# EAGLE library part OPENEMBED-SOM9331 (library BaseApp)
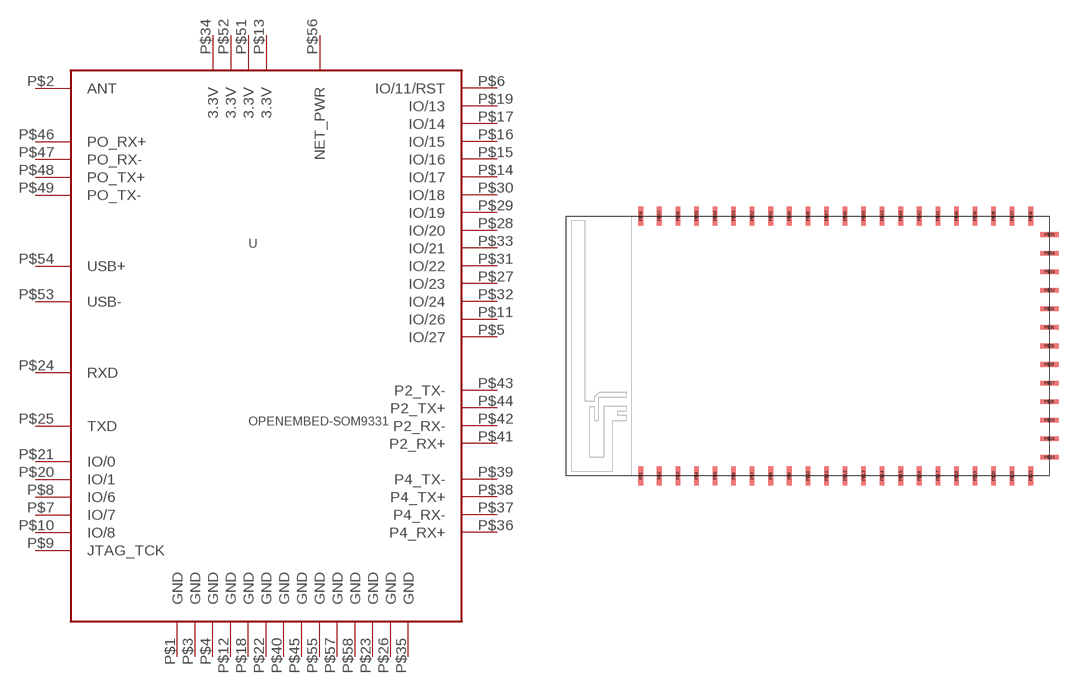
[diagram p148: symbol with the pads of OPENEMBED-SOM9331; footprint OPENEMBED-SOM9331]

Designator prefix -

## OPENEMBED-SOM9331  [OPENEMBED-SOM9331]
P$1  GND
P$2  ANT
P$3  GND
P$4  GND
P$5  IO/27
P$6  IO/11/RST
P$7  IO/7
P$8  IO/6
P$9  JTAG_TCK
P$10  IO/8
P$11  IO/26
P$12  GND
P$13  3.3V
P$14  IO/17
P$15  IO/16
P$16  IO/15
P$17  IO/14
P$18  GND
P$19  IO/13
P$20  IO/1
P$21  IO/0
P$22  GND
P$23  GND
P$24  RXD
P$25  TXD
P$26  GND
P$27  IO/23
P$28  IO/20
P$29  IO/19
P$30  IO/18
P$31  IO/22
P$32  IO/24
P$33  IO/21
P$34  3.3V
P$35  GND
P$36  P4_RX+
P$37  P4_RX-
P$38  P4_TX+
P$39  P4_TX-
P$40  GND
P$41  P2_RX+
P$42  P2_RX-
P$43  P2_TX-
P$44  P2_TX+
P$45  GND
P$46  PO_RX+
P$47  PO_RX-
P$48  PO_TX+
P$49  PO_TX-
P$51  3.3V
P$52  3.3V
P$53  USB-
P$54  USB+
P$55  GND
P$56  NET_PWR
P$57  GND
P$58  GND

## Footprint OPENEMBED-SOM9331 (pad centres in mm)
smd 0.5 x 2: P$1 -18,-14; P$2 -16,-14; P$3 -14,-14; P$4 -12,-14; P$5 -10,-14; P$6 -8,-14; P$7 -6,-14; P$8 -4,-14; P$9 -2,-14; P$10 0,-14; P$11 2,-14; P$12 4,-14; P$13 6,-14; P$14 8,-14; P$15 10,-14; P$16 12,-14; P$17 14,-14; P$18 16,-14; P$19 18,-14; P$20 20,-14; P$21 22,-14; P$22 24,-14; P$36 24,14; P$37 22,14; P$38 20,14; P$39 18,14; P$40 16,14; P$41 14,14; P$42 12,14; P$43 8,14; P$44 10,14; P$45 6,14; P$46 4,14; P$47 2,14; P$48 0,14; P$49 -2,14; P$51 -4,14; P$52 -6,14; P$53 -8,14; P$54 -10,14; P$55 -12,14; P$56 -14,14; P$57 -16,14; P$58 -18,14
smd 2 x 0.5: P$23 26,-12; P$24 26,-10; P$25 26,-8; P$26 26,-6; P$27 26,-4; P$28 26,-2; P$29 26,0; P$30 26,2; P$31 26,4; P$32 26,6; P$33 26,8; P$34 26,10; P$35 26,12